# Altium footprint library ZPWL.PcbLib: 168 footprints (part 9 of 11)
Each footprint in its own frame and in the unit in brackets; x right, y up, seen from the top. Pads: shape width x height; smd on the part's side, far side on the other; paste and mask are expansions set on the pad; w line width, h text height; cw(c..) or ccw(c..) is an arc to the next point about the centre after c.
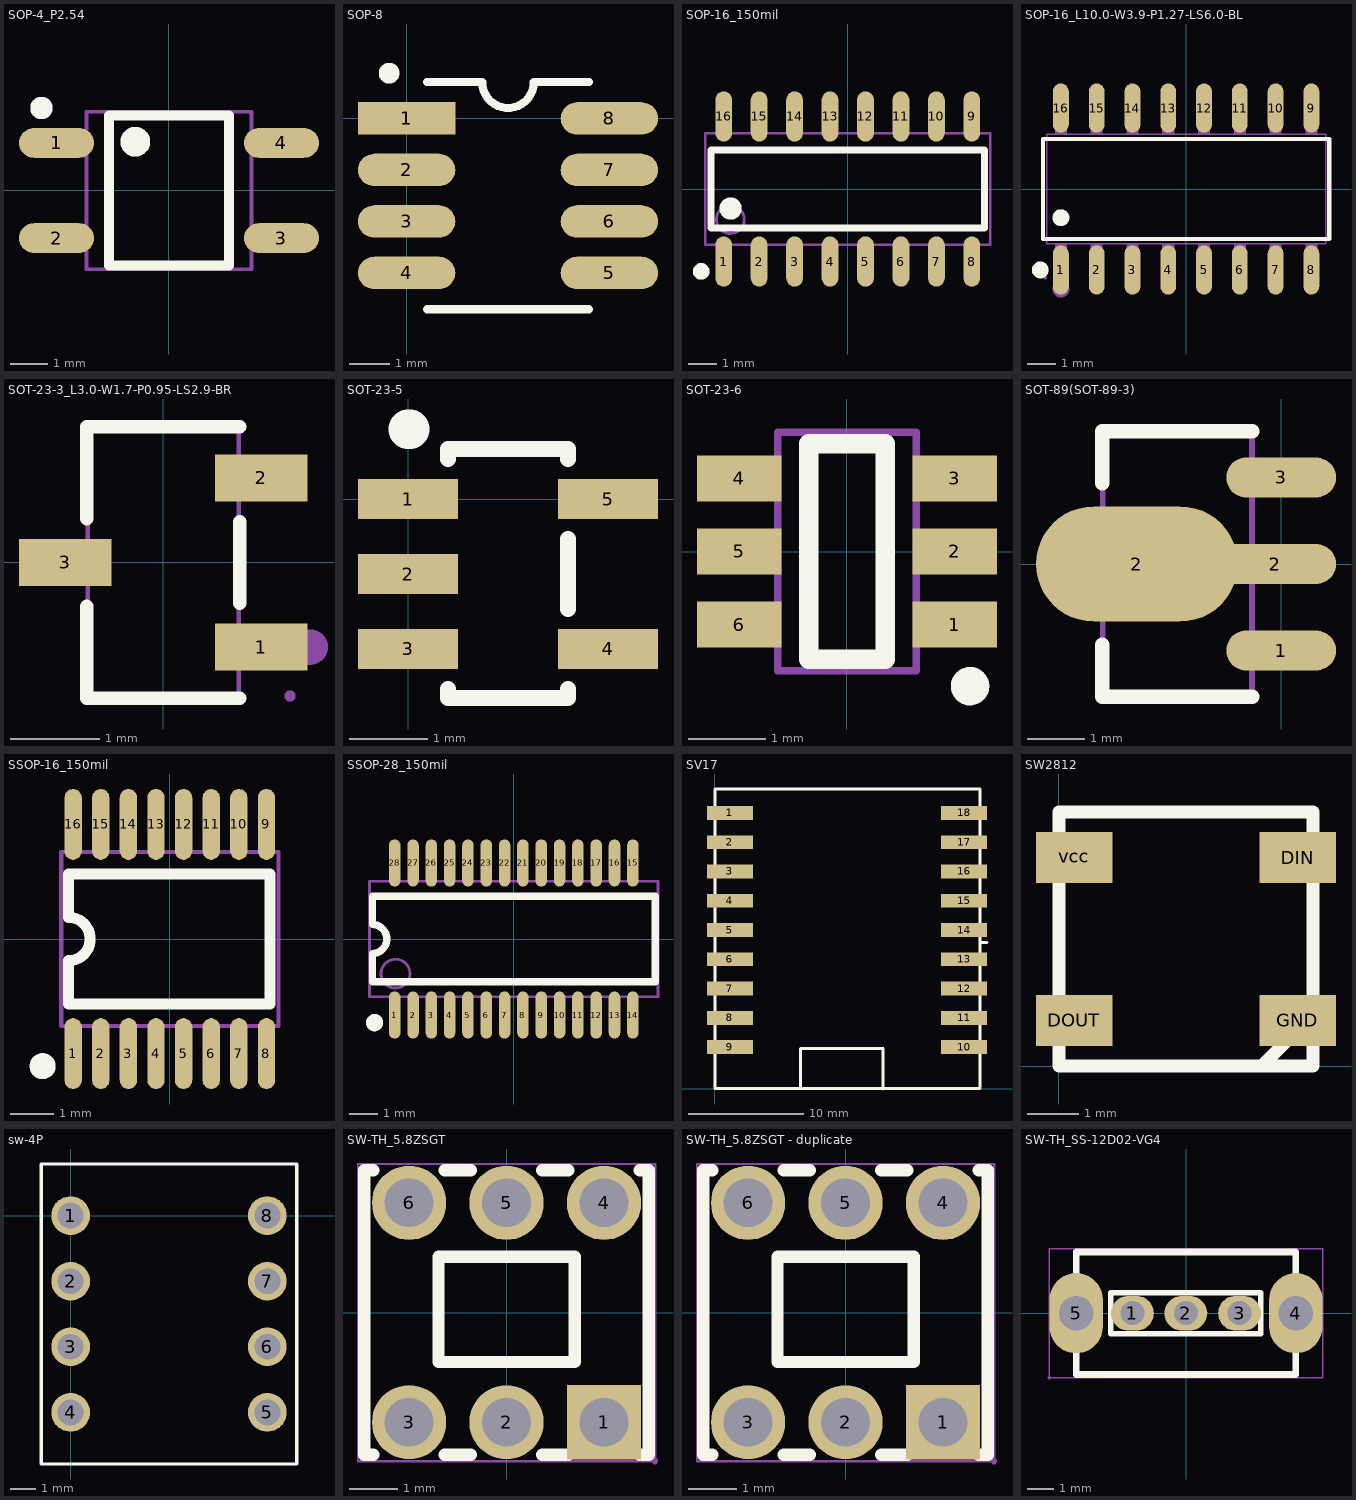
[diagram p8: the footprints below, top view; thin cyan lines are the x and y axes]

## SOP-4_P2.54 [mm]
pads (4):
  oval 2x0.8 smd: 1(-3,1.27) 2(-3,-1.27) 3(3,-1.27) 4(3,1.27)
Top Overlay:
  circle w0.3: c-3.4,2.2 r0.15
  circle w0.4: c-0.9,1.3 r0.2
  lines w0.254: -1.6,-2 -1.6,2 1.6,2 1.6,-2 -1.6,-2
Mechanical 13:
  lines w0.1: -2.2,-2.1 -2.2,2.1 2.2,2.1 2.2,-2.1 -2.2,-2.1

## SOP-8 [mm]
pads (8):
  rect 2.4x0.8 smd: 1(0,0)
  oval 2.4x0.8 smd: 2(0,-1.27) 3(0,-2.54) 4(0,-3.81) 5(5,-3.81) 6(5,-2.54) 7(5,-1.27) 8(5,0)
Top Overlay:
  circle w0.254: c-0.432,1.118 r0.13
  lines w0.2: 0.5,-4.705 4.5,-4.705 ; 0.5,0.895 1.865,0.895 ccw(c2.5,0.895) 3.135,0.895 4.5,0.895
3D body "SOIC8.STEP": height 1.6, standoff 0, extent -0.456,-4.343 5.586,0.677

## SOP-16_150mil [mm]
pads (16):
  oval 0.6x1.8 smd: 1(-4.445,-2.6) 2(-3.175,-2.6) 3(-1.905,-2.6) 4(-0.635,-2.6) 5(0.635,-2.6) 6(1.905,-2.6) 7(3.175,-2.6) 8(4.445,-2.6) 9(4.445,2.6) 10(3.175,2.6) 11(1.905,2.6) 12(0.635,2.6) 13(-0.635,2.6) 14(-1.905,2.6) 15(-3.175,2.6) 16(-4.445,2.6)
Top Overlay:
  circle w0.3: c-5.25,-2.95 r0.15
  circle w0.4: c-4.2,-0.7 r0.2
  lines w0.254: -4.9,-1.4 -4.9,1.4 4.9,1.4 4.9,-1.4 -4.9,-1.4
Mechanical 13:
  circle w0.1: c-4.205,-1.095 r0.5
  lines w0.1: -5.105,-1.995 -5.105,1.995 5.105,1.995 5.105,-1.995 -5.105,-1.995
3D body "SOIC16P127_990X600X175L60X40.STEP": height 1.75, standoff 0, extent -4.95,-2.97 4.95,3.03

## SOP-16_L10.0-W3.9-P1.27-LS6.0-BL [mm]
pads (16):
  oval 0.56x1.745 smd: 1(-4.445,-2.872) 2(-3.175,-2.872) 3(-1.905,-2.872) 4(-0.635,-2.872) 5(0.635,-2.872) 6(1.905,-2.872) 7(3.175,-2.872) 8(4.445,-2.872) 9(4.445,2.872) 10(3.175,2.872) 11(1.905,2.872) 12(0.635,2.872) 13(-0.635,2.872) 14(-1.905,2.872) 15(-3.175,2.872) 16(-4.445,2.872)
Top Overlay:
  circle w0.3: c-4.445,-1.019 r0.15
  circle w0.3: c-5.177,-2.872 r0.15
  lines w0.152: -5.076,-1.771 -5.076,1.771 5.076,1.771 5.076,-1.771 -5.076,-1.771
Mechanical 6:
  circle w0.3: c-4.445,-3.55 r0.15
Mechanical 15:
  drawing of 37 lines, arcs and shapes, not listed

## SOT-23-3_L3.0-W1.7-P0.95-LS2.9-BR [mm]
pads (3):
  rect 1.037x0.532 smd: 1(1.101,-0.95) 2(1.101,0.95) 3(-1.101,0)
Top Overlay:
  lines w0.152: -0.859,-0.495 -0.859,-1.526 0.859,-1.526 ; -0.859,0.495 -0.859,1.526 0.859,1.526 ; 0.859,-0.455 0.859,0.455
Mechanical 6:
  circle w0.2: c1.65,-0.95 r0.1
Mechanical 15:
  region: 1,-1.137 1,-0.762 1.425,-0.762 1.425,-1.137
  region: 0.815,-1.137 0.815,-0.762 1.01,-0.762 1.01,-1.137
  region: 1,0.762 1,1.137 1.425,1.137 1.425,0.762
  region: 0.815,0.762 0.815,1.137 1.01,1.137 1.01,0.762
  region: -1.425,-0.188 -1.425,0.188 -1,0.188 -1,-0.188
  region: -1.01,-0.188 -1.01,0.188 -0.815,0.188 -0.815,-0.188
  region: 1.485,-1.5 1.485,-1.475 1.45,-1.44 1.4,-1.44 1.365,-1.475 1.365,-1.5 1.365,-1.525 1.4,-1.56 1.45,-1.56 1.485,-1.525 1.485,-1.5
  lines w0.051: -0.85,-1.5 -0.85,1.5 0.85,1.5 0.85,-1.5 -0.85,-1.5

## SOT-23-5 [mil]
pads (5):
  rect 50x20 smd: 1(0,0) 2(0,-37.4) 3(0,-74.8) 4(100,-74.8) 5(100,0)
Top Overlay:
  lines w8: 20,-95 20,-99.32 80,-99.32 80,-95 ; 20,20 20,25 80,25 80,20 ; 80,-55 80,-20
  lines w19.68: 0,35 1,35

## SOT-23-6 [mm]
pads (6):
  rect 1.1x0.6 smd: 1(1.4,-0.95) 2(1.4,0) 3(1.4,0.95) 4(-1.4,0.95) 5(-1.4,0) 6(-1.4,-0.95)
Top Overlay:
  circle w0.25: c1.6,-1.75 r0.125
  lines w0.254: -0.5,-1.4 -0.5,1.4 0.5,1.4 0.5,-1.4 -0.5,-1.4
Mechanical 13:
  lines w0.1: -0.9,-1.55 -0.9,1.55 0.9,1.55 0.9,-1.55 -0.9,-1.55

## SOT-89(SOT-89-3) [mm]
pads (4):
  oval 1.9x0.7 smd: 1(0,-1.5) 3(0,1.5)
  oval 3.5x2 smd: 2(-2.5,0)
  oval 2.1x0.7 smd: 2(-0.1,0)
Top Overlay:
  lines w0.254: -3.1,-1.4 -3.1,-2.3 -0.5,-2.3 ; -3.1,1.4 -3.1,2.3 -0.5,2.3
Mechanical 13:
  lines w0.1: -3.095,-2.3 -3.095,2.3 -0.505,2.3 -0.505,-2.3 -3.095,-2.3
3D body "SOT-89-3.STEP": height 1.51, standoff 0, extent -3.75,-2.25 0.55,2.25

## SSOP-16_150mil [mm]
pads (16):
  oval 0.4x1.63 smd mask+0.051: 1(-2.222,-2.635) 2(-1.587,-2.635) 3(-0.952,-2.635) 4(-0.317,-2.635) 5(0.318,-2.635) 6(0.953,-2.635) 7(1.588,-2.635) 8(2.223,-2.635) 9(2.223,2.635) 10(1.588,2.635) 11(0.953,2.635) 12(0.318,2.635) 13(-0.317,2.635) 14(-0.952,2.635) 15(-1.587,2.635) 16(-2.222,2.635)
Top Overlay:
  circle w0.3: c-2.925,-2.925 r0.15
  lines w0.254: -2.33,-1.5 2.3,-1.5 2.3,1.5 -2.33,1.5 -2.33,0.5 cw(c-2.33,0) -2.33,-0.5 -2.33,-1.5
Mechanical 13:
  lines w0.1: -2.5,-2 -2.5,2 2.5,2 2.5,-2 -2.5,-2

## SSOP-28_150mil [mm]
pads (28):
  oval 0.4x1.63 smd mask+0.051: 1(-4.127,-2.635) 2(-3.492,-2.635) 3(-2.857,-2.635) 4(-2.222,-2.635) 5(-1.587,-2.635) 6(-0.952,-2.635) 7(-0.317,-2.635) 8(0.318,-2.635) 9(0.953,-2.635) 10(1.588,-2.635) 11(2.223,-2.635) 12(2.858,-2.635) 13(3.493,-2.635) 14(4.128,-2.635) 15(4.128,2.635) 16(3.493,2.635) 17(2.858,2.635) 18(2.223,2.635) 19(1.588,2.635) 20(0.953,2.635) 21(0.318,2.635) 22(-0.317,2.635) 23(-0.952,2.635) 24(-1.587,2.635) 25(-2.222,2.635) 26(-2.857,2.635) 27(-3.492,2.635) 28(-4.127,2.635)
Top Overlay:
  circle w0.3: c-4.825,-2.9 r0.15
  lines w0.254: -4.9,-1.48 4.9,-1.48 4.9,1.48 -4.9,1.48 -4.9,0.5 cw(c-4.9,0) -4.9,-0.5 -4.9,-1.48
Mechanical 13:
  circle w0.1: c-4.1,-1.2 r0.5
  lines w0.1: -5,-2 -5,2 5,2 5,-2 -5,-2

## SV17 [mm]
pads (18):
  rect 4x1.2 smd: 1(1.295,23.927) 2(1.295,21.387) 3(1.295,18.847) 4(1.295,16.307) 5(1.295,13.767) 6(1.295,11.227) 7(1.295,8.687) 8(1.295,6.147) 9(1.295,3.607) 10(21.615,3.607) 11(21.615,6.147) 12(21.615,8.687) 13(21.615,11.227) 14(21.615,13.767) 15(21.615,16.307) 16(21.615,18.847) 17(21.615,21.387) 18(21.615,23.927)
Top Overlay:
  lines w0.254: 7.417,0 7.417,3.505 14.554,3.505 14.58,3.48 14.58,-0.025 ; 23,12.7 23.622,12.7 ; 0,0 0,26 23,26 23,0 0,0

## SW2812 [mm]
pads (4):
  rect 1.5x1 smd: DIN(4.699,4.1) DOUT(0.299,0.9) GND(4.699,0.9) vcc(0.299,4.1)
Top Overlay:
  lines w0.254: 3.857,0 3.81,0 3.984,0 5,1.016 ; 0,0 0,5 5,5 5,0 0,0

## sw-4P [mm]
pads (8):
  round 1.5 hole 1: 1(0,0) 2(0,-2.54) 3(0,-5.08) 4(0,-7.62) 5(7.62,-7.62) 6(7.62,-5.08) 7(7.62,-2.54) 8(7.62,0)
Top Overlay:
  lines w0.127: -1.14,-9.62 8.76,-9.62 8.76,2 -1.14,2 -1.14,-9.62

## SW-TH_5.8ZSGT [mil]
pads (6):
  rect 60x60 hole 39.37: 1(78.74,-88.59)
  round 60 hole 39.37: 2(0,-88.59) 3(-78.74,-88.59) 4(78.74,88.59) 5(0,88.59) 6(-78.74,88.59)
Top Overlay:
  lines w10: -107.53,-115 -115,-115 -115,115 -107.53,115 ; -49.95,-115 -28.79,-115 ; -49.95,115 -28.79,115 ; 28.79,-115 49.95,-115 ; 28.79,115 49.95,115 ; 107.53,-115 115,-115 115,115 107.53,115 ; -55,-40 55,-40 55,45 -55,45 -55,-40
Mechanical 15:
  region: 122.36,-120 122.36,-119.03 120.98,-117.64 119.02,-117.64 117.64,-119.03 117.64,-120 117.64,-120.98 119.02,-122.36 120.98,-122.36 122.36,-120.98 122.36,-120
  region: 94.48,88.59 94.48,91.72 92.09,97.5 87.66,101.93 81.87,104.33 75.61,104.33 69.82,101.93 65.39,97.5 63,91.72 63,88.59 63,85.45 65.39,79.67 69.82,75.24 75.61,72.84 81.87,72.84 87.66,75.24 92.09,79.67 94.48,85.45 94.48,88.59
  region: 15.74,88.59 15.74,91.72 13.35,97.5 8.92,101.93 3.13,104.33 -3.13,104.33 -8.92,101.93 -13.35,97.5 -15.74,91.72 -15.74,88.59 -15.74,85.45 -13.35,79.67 -8.92,75.24 -3.13,72.84 3.13,72.84 8.92,75.24 13.35,79.67 15.74,85.45 15.74,88.59
  region: -63,88.59 -63,91.72 -65.39,97.5 -69.82,101.93 -75.61,104.33 -81.87,104.33 -87.66,101.93 -92.09,97.5 -94.48,91.72 -94.48,88.59 -94.48,85.45 -92.09,79.67 -87.66,75.24 -81.87,72.84 -75.61,72.84 -69.82,75.24 -65.39,79.67 -63,85.45 -63,88.59
  region: -63,-88.58 -63,-85.45 -65.39,-79.67 -69.82,-75.24 -75.61,-72.84 -81.87,-72.84 -87.66,-75.24 -92.09,-79.67 -94.48,-85.45 -94.48,-88.58 -94.48,-91.72 -92.09,-97.5 -87.66,-101.93 -81.87,-104.33 -75.61,-104.33 -69.82,-101.93 -65.39,-97.5 -63,-91.72 -63,-88.58
  region: 15.74,-88.58 15.74,-85.45 13.35,-79.67 8.92,-75.24 3.13,-72.84 -3.13,-72.84 -8.92,-75.24 -13.35,-79.67 -15.74,-85.45 -15.74,-88.58 -15.74,-91.72 -13.35,-97.5 -8.92,-101.93 -3.13,-104.33 3.13,-104.33 8.92,-101.93 13.35,-97.5 15.74,-91.72 15.74,-88.58
  region: 94.48,-88.58 94.48,-85.45 92.09,-79.67 87.66,-75.24 81.87,-72.84 75.61,-72.84 69.82,-75.24 65.39,-79.67 63,-85.45 63,-88.58 63,-91.72 65.39,-97.5 69.82,-101.93 75.61,-104.33 81.87,-104.33 87.66,-101.93 92.09,-97.5 94.48,-91.72 94.48,-88.58
  lines w2: -120,-120 120,-120 120,120 -120,120 -120,-120
3D body "5.8 ZSGT.STEP": height 401.69, standoff -133.74, extent -114.17,-115 114.17,113.35

## SW-TH_5.8ZSGT - duplicate [mil]
pads (6):
  rect 60x60 hole 39.37: 1(78.74,-88.59)
  round 60 hole 39.37: 2(0,-88.59) 3(-78.74,-88.59) 4(78.74,88.59) 5(0,88.59) 6(-78.74,88.59)
Top Overlay:
  lines w10: -107.53,-115 -115,-115 -115,115 -107.53,115 ; -49.95,-115 -28.79,-115 ; -49.95,115 -28.79,115 ; 28.79,-115 49.95,-115 ; 28.79,115 49.95,115 ; 107.53,-115 115,-115 115,115 107.53,115 ; -55,-40 55,-40 55,45 -55,45 -55,-40
Mechanical 15:
  region: 122.36,-120 122.36,-119.03 120.98,-117.64 119.02,-117.64 117.64,-119.03 117.64,-120 117.64,-120.98 119.02,-122.36 120.98,-122.36 122.36,-120.98 122.36,-120
  region: 94.48,88.59 94.48,91.72 92.09,97.5 87.66,101.93 81.87,104.33 75.61,104.33 69.82,101.93 65.39,97.5 63,91.72 63,88.59 63,85.45 65.39,79.67 69.82,75.24 75.61,72.84 81.87,72.84 87.66,75.24 92.09,79.67 94.48,85.45 94.48,88.59
  region: 15.74,88.59 15.74,91.72 13.35,97.5 8.92,101.93 3.13,104.33 -3.13,104.33 -8.92,101.93 -13.35,97.5 -15.74,91.72 -15.74,88.59 -15.74,85.45 -13.35,79.67 -8.92,75.24 -3.13,72.84 3.13,72.84 8.92,75.24 13.35,79.67 15.74,85.45 15.74,88.59
  region: -63,88.59 -63,91.72 -65.39,97.5 -69.82,101.93 -75.61,104.33 -81.87,104.33 -87.66,101.93 -92.09,97.5 -94.48,91.72 -94.48,88.59 -94.48,85.45 -92.09,79.67 -87.66,75.24 -81.87,72.84 -75.61,72.84 -69.82,75.24 -65.39,79.67 -63,85.45 -63,88.59
  region: -63,-88.58 -63,-85.45 -65.39,-79.67 -69.82,-75.24 -75.61,-72.84 -81.87,-72.84 -87.66,-75.24 -92.09,-79.67 -94.48,-85.45 -94.48,-88.58 -94.48,-91.72 -92.09,-97.5 -87.66,-101.93 -81.87,-104.33 -75.61,-104.33 -69.82,-101.93 -65.39,-97.5 -63,-91.72 -63,-88.58
  region: 15.74,-88.58 15.74,-85.45 13.35,-79.67 8.92,-75.24 3.13,-72.84 -3.13,-72.84 -8.92,-75.24 -13.35,-79.67 -15.74,-85.45 -15.74,-88.58 -15.74,-91.72 -13.35,-97.5 -8.92,-101.93 -3.13,-104.33 3.13,-104.33 8.92,-101.93 13.35,-97.5 15.74,-91.72 15.74,-88.58
  region: 94.48,-88.58 94.48,-85.45 92.09,-79.67 87.66,-75.24 81.87,-72.84 75.61,-72.84 69.82,-75.24 65.39,-79.67 63,-85.45 63,-88.58 63,-91.72 65.39,-97.5 69.82,-101.93 75.61,-104.33 81.87,-104.33 87.66,-101.93 92.09,-97.5 94.48,-91.72 94.48,-88.58
  lines w2: -120,-120 120,-120 120,120 -120,120 -120,-120

## SW-TH_SS-12D02-VG4 [mm]
pads (5):
  oval 1.6x1.3 hole 0.9: 1(-2,0) 2(-0.007,0) 3(2,0)
  oval 2x3 hole 1.3: 4(4.1,0) 5(-4.1,0)
Top Overlay:
  lines w0.203: -2.802,-0.762 -1.786,-0.762 1.77,-0.762 2.786,-0.762 2.786,0.762 1.77,0.762 -1.786,0.762 -2.802,0.762 -2.802,-0.762
  lines w0.254: -4.1,-2.286 -4.1,2.286 ; -4.064,-2.286 0,-2.286 4.064,-2.286 ; -4.064,2.286 0,2.286 4.064,2.286 ; 4.1,-2.286 4.1,2.286
Mechanical 15:
  region: -5.04,-2.413 -5.04,-2.388 -5.075,-2.353 -5.125,-2.353 -5.16,-2.388 -5.16,-2.413 -5.16,-2.438 -5.125,-2.473 -5.075,-2.473 -5.04,-2.438 -5.04,-2.413
  region: -3.55,0 -3.551,0.109 -3.636,0.309 -3.79,0.462 -3.991,0.545 -4.209,0.545 -4.41,0.462 -4.564,0.309 -4.649,0.109 -4.65,0 -4.649,-0.109 -4.564,-0.309 -4.41,-0.462 -4.209,-0.545 -3.991,-0.545 -3.79,-0.462 -3.636,-0.309 -3.551,-0.109 -3.55,0
  region: 4.65,0 4.649,0.109 4.564,0.309 4.41,0.462 4.209,0.545 3.991,0.545 3.79,0.462 3.636,0.309 3.551,0.109 3.55,0 3.551,-0.109 3.636,-0.309 3.79,-0.462 3.991,-0.545 4.209,-0.545 4.41,-0.462 4.564,-0.309 4.649,-0.109 4.65,0
  region: 0.343,0 0.343,0.07 0.29,0.198 0.192,0.297 0.063,0.35 -0.076,0.35 -0.205,0.297 -0.303,0.198 -0.357,0.07 -0.357,0 -0.357,-0.07 -0.303,-0.198 -0.205,-0.297 -0.076,-0.35 0.063,-0.35 0.192,-0.297 0.29,-0.198 0.343,-0.07 0.343,0
  region: 2.35,0 2.35,0.07 2.297,0.198 2.198,0.297 2.07,0.35 1.93,0.35 1.802,0.297 1.703,0.198 1.65,0.07 1.65,0 1.65,-0.07 1.703,-0.198 1.802,-0.297 1.93,-0.35 2.07,-0.35 2.198,-0.297 2.297,-0.198 2.35,-0.07 2.35,0
  region: -1.65,0 -1.65,0.07 -1.703,0.198 -1.802,0.297 -1.93,0.35 -2.07,0.35 -2.198,0.297 -2.297,0.198 -2.35,0.07 -2.35,0 -2.35,-0.07 -2.297,-0.198 -2.198,-0.297 -2.07,-0.35 -1.93,-0.35 -1.802,-0.297 -1.703,-0.198 -1.65,-0.07 -1.65,0
  lines w0.051: -5.1,-2.413 -5.1,2.413 5.1,2.413 5.1,-2.413 -5.1,-2.413